# EAGLE library part DS2408S+ (library Oles komponentbibliotek)
DS2408S+ The DS2408 is an 8-channel, programmable I/O 1-Wire chip. PIO outputs are configured as open-drain and provide an on resistance of 100Ω max.
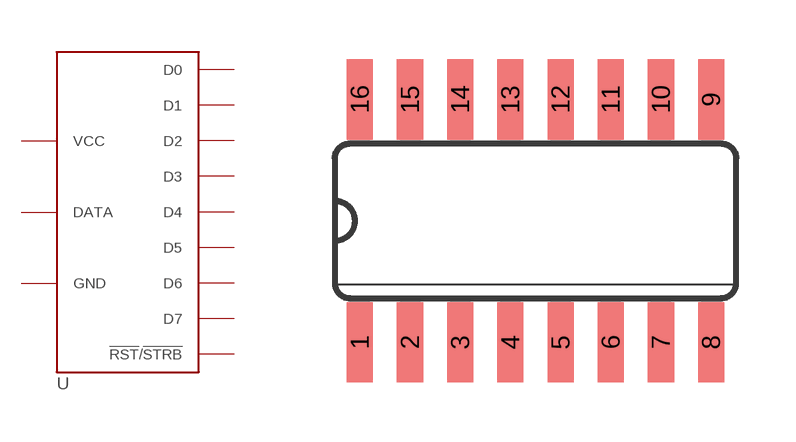
[diagram p36: symbol with the pads of SO16; footprint SO16]

Designator prefix U

## DS2408S+  [SO16]
2  D0
3  VCC
4  DATA
5  GND
7  D7
8  D6
9  D5
10  !RST!/!STRB
11  D4
12  D3
13  D2
14  D1

## Footprint SO16 (pad centres in mm)
Small Outline package 150 mil
smd 0.66 x 2.032: 1 -4.445,-3.073; 2 -3.175,-3.073; 3 -1.905,-3.073; 4 -0.635,-3.073; 5 0.635,-3.073; 6 1.905,-3.073; 7 3.175,-3.073; 8 4.445,-3.073; 9 4.445,3.073; 10 3.175,3.073; 11 1.905,3.073; 12 0.635,3.073; 13 -0.635,3.073; 14 -1.905,3.073; 15 -3.175,3.073; 16 -4.445,3.073